# Altium footprint library STF 28-461.PcbLib: 1 footprints
Each footprint in its own frame and in the unit in brackets; x right, y up, seen from the top. Pads: shape width x height; smd on the part's side, far side on the other; paste and mask are expansions set on the pad; w line width, h text height; cw(c..) or ccw(c..) is an arc to the next point about the centre after c.
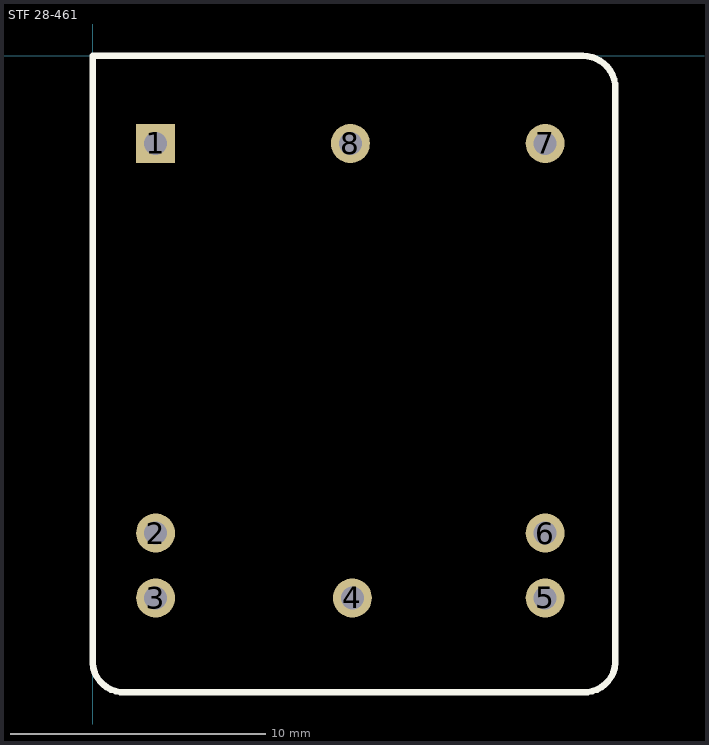
[diagram p0: the footprint, top view; thin cyan lines are the x and y axes]

## STF 28-461 [mil]
pads (8):
  rect 60x60 hole 35.43: 1(97,-135)
  round 60 hole 35.43: 2(97,-735) 3(97,-835) 4(400,-835) 5(697,-835) 6(697,-735) 7(697,-135) 8(397,-135)
Top Overlay:
  lines w10: 0,-935 ccw(c47.5,-932.5) 50,-980 755,-980 ccw(c757.5,-932.5) 805,-935 805,-50 ccw(c755,-50) 755,0 0,0 0,-935
3D body: height 270, standoff 0, extent 0,-980 805,0